# Altium schematic symbol library DLW21HN.Schlib: 1 symbol
Pins are listed as number, name and electrical type; pins without a type are passive.

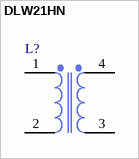
[diagram p0: symbol DLW21HN]

## DLW21HN
designator L?  (value not drawn)
RF transformer
pins: 1, 2, 3, 4
2 alternate drawings of the same symbol